# Altium footprint library 0402ARRAY4.PcbLib: 1 footprints
Each footprint in its own frame and in the unit in brackets; x right, y up, seen from the top. Pads: shape width x height; smd on the part's side, far side on the other; paste and mask are expansions set on the pad; w line width, h text height; cw(c..) or ccw(c..) is an arc to the next point about the centre after c.
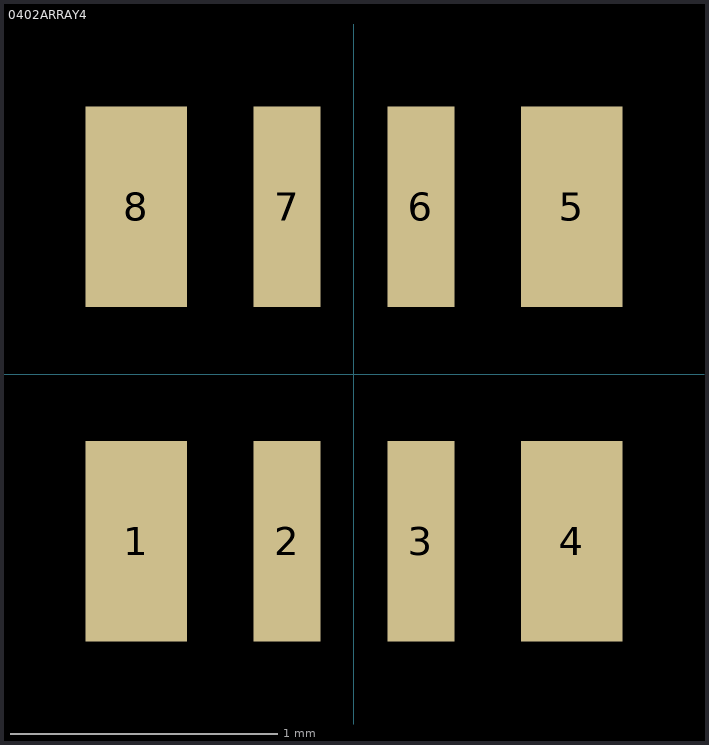
[diagram p0: the footprint, top view; thin cyan lines are the x and y axes]

## 0402ARRAY4 [mm]
height 0.55
pads (8):
  rect 0.38x0.75 smd mask+0.05: 1(-0.815,-0.625) 4(0.815,-0.625) 8(-0.815,0.625)
  rect 0.25x0.75 smd mask+0.05: 2(-0.25,-0.625) 3(0.25,-0.625) 6(0.25,0.625) 7(-0.25,0.625)
  rect 0.38x0.75 smd paste+0 mask+0.05: 5(0.815,0.625)
3D body: height 0.45, standoff 0, extent -0.987,-0.498 1.013,0.502